# Altium footprint library CAPC3216X190N.PcbLib: 1 footprints
Each footprint in its own frame and in the unit in brackets; x right, y up, seen from the top. Pads: shape width x height; smd on the part's side, far side on the other; paste and mask are expansions set on the pad; w line width, h text height; cw(c..) or ccw(c..) is an arc to the next point about the centre after c.
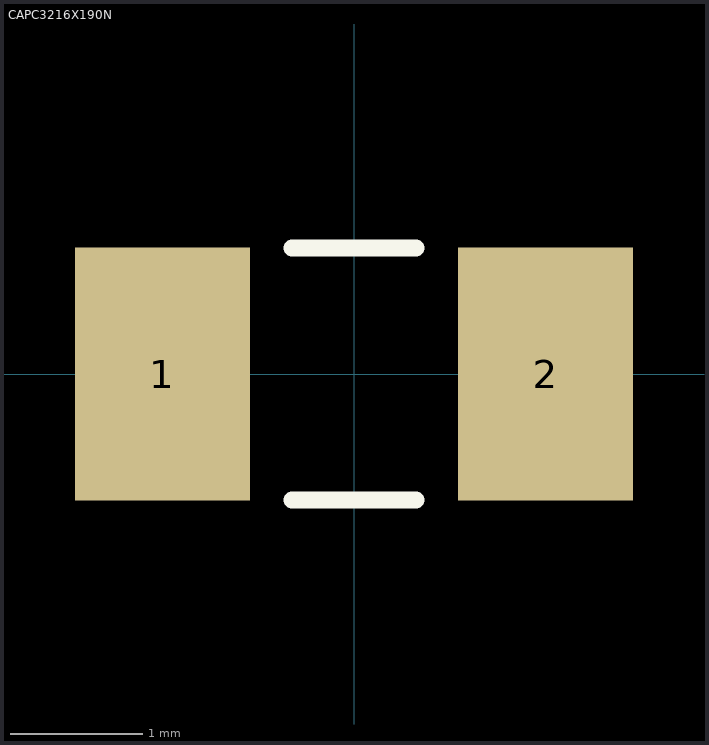
[diagram p0: the footprint, top view; thin cyan lines are the x and y axes]

## CAPC3216X190N [mm]
pads (2):
  rect 1.32x1.91 smd: 1(-1.446,0) 2(1.446,0)
Top Overlay:
  lines w0.127: -0.47,-0.95 0.47,-0.95 ; -0.47,0.95 0.47,0.95
3D body "C_1206.STEP": height 1.61, standoff 0.01, extent -1.6,-0.95 1.6,0.95